# Altium footprint library MCP4131.PcbLib: 1 footprints
Each footprint in its own frame and in the unit in brackets; x right, y up, seen from the top. Pads: shape width x height; smd on the part's side, far side on the other; paste and mask are expansions set on the pad; w line width, h text height; cw(c..) or ccw(c..) is an arc to the next point about the centre after c.
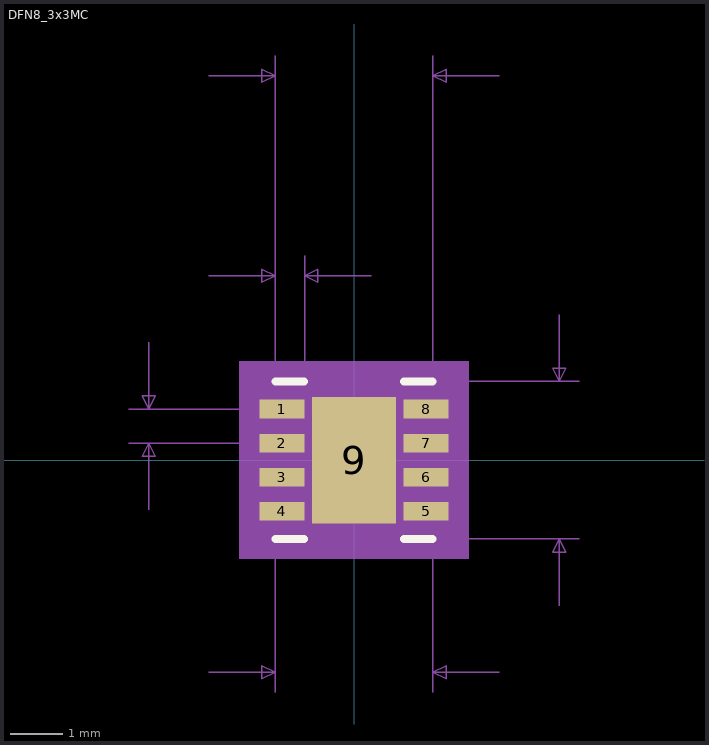
[diagram p0: the footprint, top view; thin cyan lines are the x and y axes]

## DFN8_3x3MC [mil]
pads (9):
  rect 34x14 smd: 1(-54.06,38.39) 2(-54.06,12.8) 3(-54.06,-12.8) 4(-54.06,-38.39) 5(54.06,-38.39) 6(54.06,-12.8) 7(54.06,12.8) 8(54.06,38.39)
  rect 63x95 smd: 9(0,0)
Top Overlay:
  lines w6: -59.06,-59.06 -37.67,-59.06 ; -59.06,59.06 -37.67,59.06 ; 37.67,-59.06 59.06,-59.06 ; 37.67,59.06 59.06,59.06
Mechanical 5:
  region: 86.06,-74.06 -86.06,-74.06 -86.06,74.06 86.06,74.06
Mechanical 7:
  lines w1: -169.06,12.8 -54.06,12.8 ; -169.06,38.39 -54.06,38.39 ; -154.06,-37.2 -154.06,12.8 ; -154.06,88.39 -154.06,38.39 ; -109.06,-159.06 -59.06,-159.06 ; -109.06,138.39 -59.06,138.39 ; -109.06,288.39 -59.06,288.39 ; -59.06,-174.06 -59.06,-59.06 ; -59.06,153.39 -59.06,38.39 -59.06,303.39 ; -37.06,38.39 -37.06,153.39 ; 12.94,138.39 -37.06,138.39 ; 59.06,-174.06 59.06,-59.06 169.06,-59.06 ; 59.06,38.39 59.06,303.39 ; 59.06,59.06 169.06,59.06 ; 109.06,-159.06 59.06,-159.06 ; 109.06,288.39 59.06,288.39 ; 154.06,-109.06 154.06,-59.06 ; 154.06,109.06 154.06,59.06 ; -154.06,12.8 -149.06,2.8 -159.06,2.8 -154.06,12.8 ; -154.06,38.39 -149.06,48.39 -159.06,48.39 -154.06,38.39 ; -59.06,-159.06 -69.06,-164.06 -69.06,-154.06 -59.06,-159.06 ; -59.06,138.39 -69.06,133.39 -69.06,143.39 -59.06,138.39 ; -59.06,288.39 -69.06,283.39 -69.06,293.39 -59.06,288.39 ; -37.06,138.39 -27.06,133.39 -27.06,143.39 -37.06,138.39 ; 59.06,-159.06 69.06,-164.06 69.06,-154.06 59.06,-159.06 ; 59.06,288.39 69.06,283.39 69.06,293.39 59.06,288.39 ; 154.06,-59.06 159.06,-69.06 149.06,-69.06 154.06,-59.06 ; 154.06,59.06 159.06,69.06 149.06,69.06 154.06,59.06
  text ".1181102in/3mm" at -87.5,-204.06 h25
  text ".1181102in/3mm" at 174.06,-12.5 h25
  text "2.559055E-02in/.65mm" at -424.06,13.09 h25
  text ".022in/.559mm" at -129.31,158.39 h25
  text ".1181102in/3mm" at -87.5,308.39 h25
  text "Alt 2 Padstyle: OX90Y60D30P" at -337.5,-584.06 h50
  text "Alt 1 Padstyle: OX60Y90D30P" at -337.5,-509.06 h50
  text "Default Padstyle: RX34Y14D0T" at -350,-434.06 h50
Mechanical 13:
  lines w0: -12,59.06 ccw(c0,59.06) 12,59.06
  lines w1: -59.06,-59.06 -59.06,59.06 59.06,59.06 59.06,-59.06 -59.06,-59.06
Mechanical 15:
  region: 81.06,-69.06 -81.06,-69.06 -81.06,69.06 81.06,69.06
  lines w6: -81.06,-69.06 81.06,-69.06 81.06,69.06 -81.06,69.06 -81.06,-69.06
3D body: height 20, standoff 1, extent -35,-50 35,50
3D body: height 10, standoff 0, extent 0,0 10,10